# Altium schematic symbol library 1N4007.SchLib: 1 symbol
Pins are listed as number, name and electrical type; pins without a type are passive.

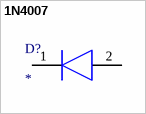
[diagram p0: symbol 1N4007]

## 1N4007
designator D?
Diode; Manufacturer_Name: Shikues; Manufacturer_Part_Number: 1N4007; Datasheet Link: https://datasheet.lcsc.com/szlcsc/SK-1N4007_C126233.pdf; Height: 2.42mm
footprint DIOM5327X242N
pins: 1 K, 2 A